# Altium integrated library Omron-B3U-TactSW.IntLib: 4 symbols
Pins are listed as number, name and electrical type; pins without a type are passive.

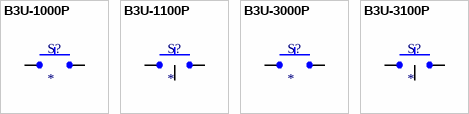
[diagram p0: symbols B3U-1000P to B3U-3100P]

## B3U-1000P
designator S?
Omron B3U Series Vertical No Earth No Boss
footprint B3U-3000P (Horizontal No earth, No boss)
pins: 1 10, 2

## B3U-1100P
designator S?
Omron B3U Series Vertical With Earth No Boss
footprint B3U-1100P (Vertical With earth, No boss)
pins: 1 10, 2, 3

## B3U-3000P
designator S?
Omron B3U Series Horizontal No Earth No Boss
footprint B3U-1000P (Vertical No earth, No boss)
pins: 1 10, 2

## B3U-3100P
designator S?
Omron B3U Series Horizontal With Earth No Boss
footprint B3U-3100P (Horizontal With earth, No boss)
pins: 1 10, 2, 3